# Altium schematic symbol library ceramicthroughhole.SchLib: 1 symbol
Pins are listed as number, name and electrical type; pins without a type are passive.

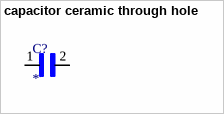
[diagram p0: symbol capacitor ceramic through hole]

## capacitor ceramic through hole
designator C?
MF: AVX; MP: AR215C104K4R; SnapEDA_Link: https://www.snapeda.com/parts/AR215C104K4R/AVX/view-part/?ref=snap; Package: Radial AVX; Value: *; Check_prices: https://www.snapeda.com/parts/AR215C104K4R/AVX/view-part/?ref=eda
footprint CAPRR508W50L508T318H762
pins: 1, 2